# Altium integrated library NGI_Search.IntLib: 77 symbols
Pins are listed as number, name and electrical type; pins without a type are passive.

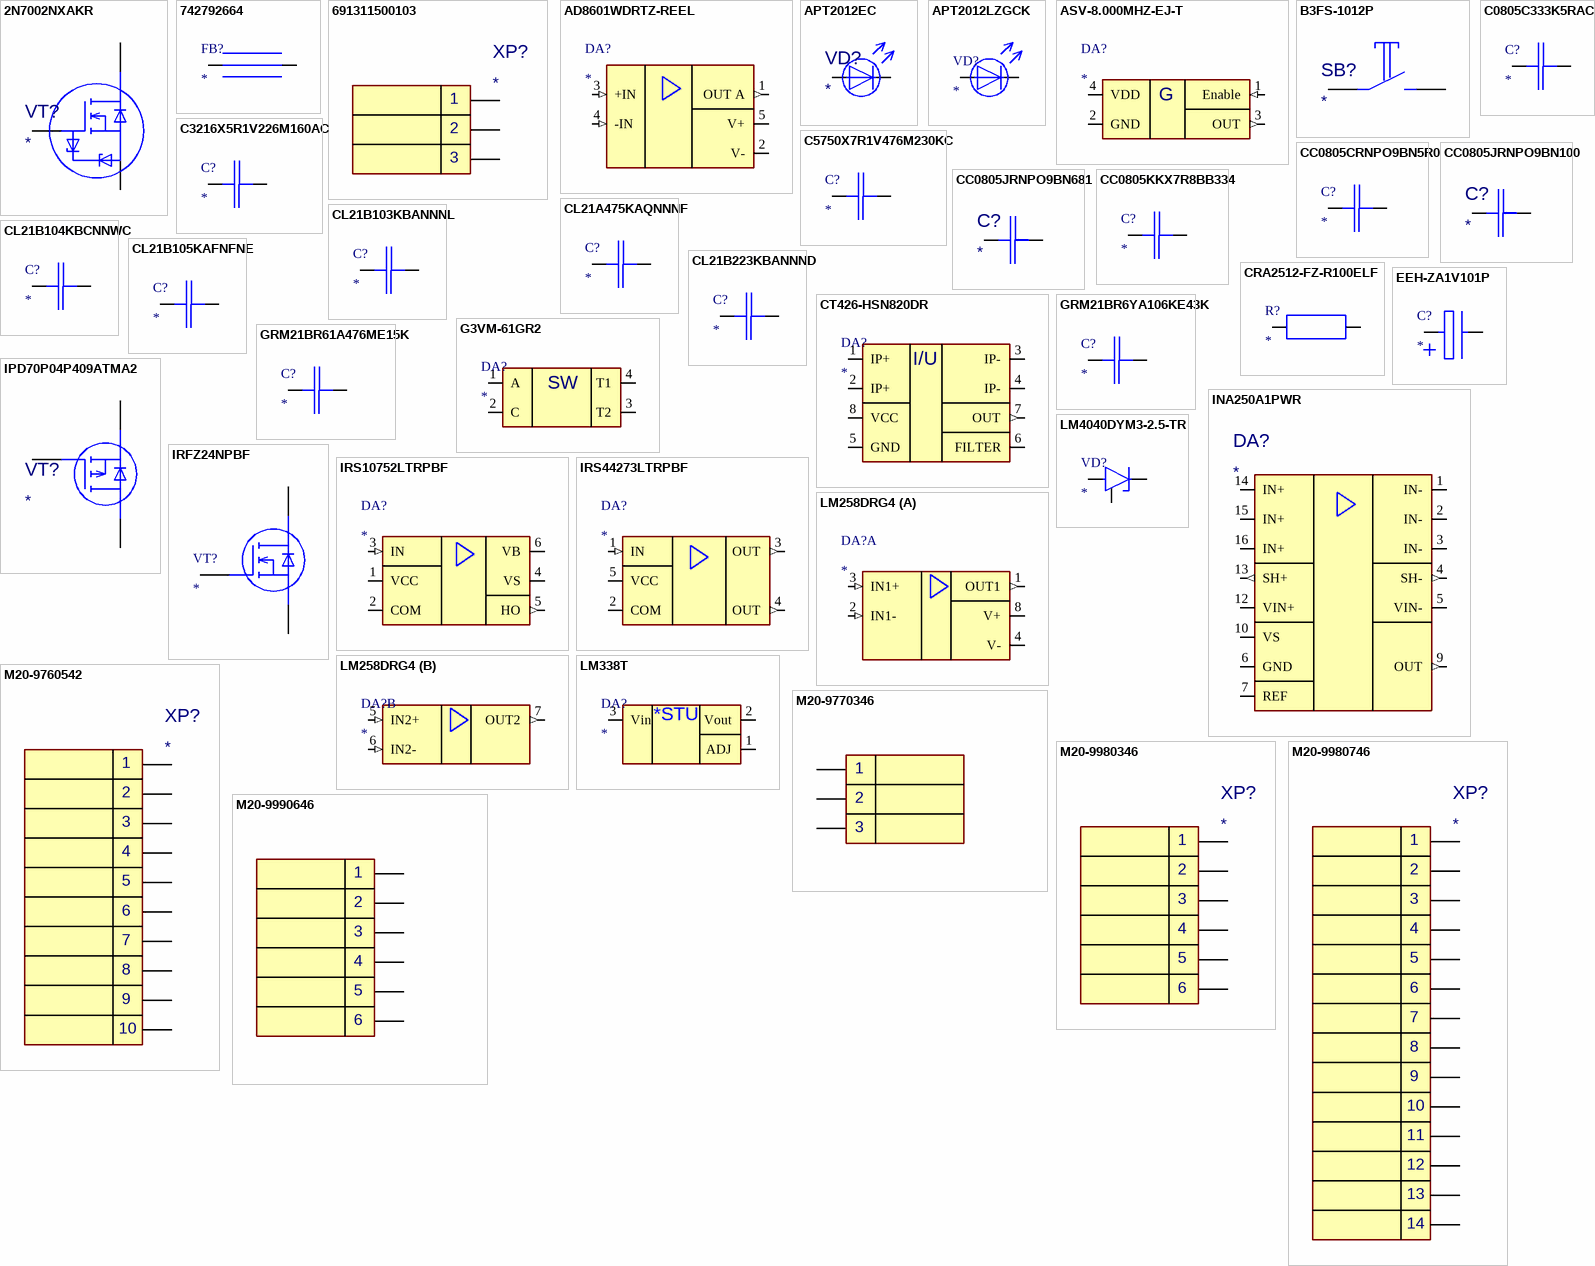
[diagram p0: symbols 2N7002NXAKR to M20-9990646]

## 2N7002NXAKR
designator VT?
MOSFET 2N7002NXAK/SOT23/TO-236AB; Manufacturer: Nexperia; ManufacturerPartNumber: 2N7002NXAKR; Designator: VT; Case: SOT-23 3pin; Datasheet Link: https://eu.mouser.com/datasheet/2/916/2N7002NXAK-1623722.pdf; Mouser Part Number: 771-2N7002NXAKR; Mouser Price/Stock: https://eu.mouser.com/ProductDetail/Nexperia/2N7002NXAKR?qs=%252B6g0mu59x7JoAsZYPFXqhw%3D%3D
footprint SOT-23-3
pins: 1 G, 2 S, 3 D

## 742792664
designator FB?
Ferrite Beads WE-CBF 0603 100MHz 1000Ohm 300mA AEC-Q200; Manufacturer: Wurth Elektronik; ManufacturerPartNumber: 742792664; Designator: FB; Case: 0603; Datasheet Link: https://www.we-online.com/components/products/datasheet/742792664.pdf; Maximum Current: 300 mA; Mouser Part Number: 710-742792664; Mouser Price/Stock: https://eu.mouser.com/ProductDetail/Wurth-Elektronik/742792664?qs=5twSNpOB8ICHwt6lnbKGWQ%3D%3D; Value: 1000Ohm; Frequency: 100 MHz
footprint 742792664_Ferrite Beads_0603
pins: 1, 2

## 691311500103
designator XP?
Pluggable Terminal Blocks WR-TBL 300VAC 20A 3P Vertical; Manufacturer: Wurth Elektronik; ManufacturerPartNumber: 691311500103; Designator: XP; Case: 3 VERTICAL PIN Pitch: 5.08 mm; Datasheet Link: https://www.we-online.com/components/products/datasheet/691311500103.pdf; Mouser Part Number: 710-691311500103; Mouser Price/Stock: https://eu.mouser.com/ProductDetail/Wurth-Elektronik/691311500103?qs=2kOmHSv6VfTr95JPv5RlIw%3D%3D
footprint 691311500103
pins: 1, 2, 3

## AD8601WDRTZ-REEL
designator DA?
Precision Amplifiers Single, Lw Cst, 8MHz, RRIO, 5V OpAmp; Manufacturer: Analog Devices Inc.; ManufacturerPartNumber: AD8601WDRTZ-REEL; Designator: DA; Case: SOT-23 5pin; Datasheet Link: https://eu.mouser.com/datasheet/2/609/ad8601_8602_8604-3119459.pdf; Mouser Part Number: 584-AD8601WDRTZ-R; Mouser Price/Stock: https://eu.mouser.com/ProductDetail/Analog-Devices/AD8601WDRTZ-REEL?qs=%2FtpEQrCGXCxTn38zRtQA5Q%3D%3D
footprint SOT-23 5pin (SOT23, 5-Leads, Body 2,90x2,80mm, Pitch 0,95mm, IPC Medium Density)
pins: 1 OUT A (out), 2 V- (power), 3 +IN (in), 4 -IN (in), 5 V+ (power)

## APT2012EC
designator VD?
Standard LEDs - SMD HI EFF RED WTR CLR; Manufacturer: Kingbright; ManufacturerPartNumber: APT2012EC; Designator: VD; Case: 0805; Datasheet Link: https://eu.mouser.com/datasheet/2/216/APT2012EC-35230.pdf; Mouser Part Number: 604-APT2012EC; Mouser Price/Stock: https://eu.mouser.com/ProductDetail/Kingbright/APT2012EC?qs=sGAEpiMZZMvyj6n1w4pZD5QO%2FJ%252BHmnjZ4Dr1%252BP7JiL4%3D
footprint APT2012LZGCK0805_LEDs
pins: A, C

## APT2012LZGCK
designator VD?
Standard LEDs - SMD 2.0X1.2MM LOW CRNT; Manufacturer: Kingbright; ManufacturerPartNumber: APT2012LZGCK; Designator: VD; Case: 0805; Mouser Part Number: 604-APT2012LZGCK; Mouser Price/Stock: https://eu.mouser.com/ProductDetail/Kingbright/APT2012LZGCK?qs=6oMev5NRZMHOosFiXb%2F3qw%3D%3D; Datasheet Link: https://eu.mouser.com/datasheet/2/216/APT2012LZGCK-535687.pdf
footprint APT2012LZGCK0805_LEDs
pins: A, C

## ASV-8.000MHZ-EJ-T
designator DA?
Standard Clock Oscillators XTAL OSC XO 8.0000MHZ HCMOS SMD; Manufacturer: ABRACON; ManufacturerPartNumber: ASV-8.000MHZ-EJ-T; Designator: DA; Value: 8 Mhz; Case: HCMOS 7 mm x 5 mm; Datasheet Link: https://eu.mouser.com/datasheet/2/3/ASV-3106233.pdf; Mouser Part Number: 815-ASV-8-EJ-T; Mouser Price/Stock: https://eu.mouser.com/ProductDetail/ABRACON/ASV-8.000MHZ-EJ-T?qs=2xLVn2jvFusvDzqul0mkiw%3D%3D
footprint HCMOS 7 mm x 5 mm
pins: 1 Enable (in), 2 GND (power), 3 OUT (out), 4 VDD (power)
text: G

## B3FS-1012P
designator SB?
Tactile Switches Tactile Switch; Manufacturer: Omron; ManufacturerPartNumber: B3FS-1012P; Designator: SB; Case: Flat; Datasheet Link: https://eu.mouser.com/datasheet/2/307/omron_B3FS-1189765.pdf; Mouser Part Number: 653-B3FS-1012P; Mouser Price/Stock: https://eu.mouser.com/ProductDetail/Omron-Electronics/B3FS-1012P?qs=1tDaWCEHQQ7mwfTJVAKWQA%3D%3D
footprint Flat Switches
pins: 1, 2 hidden, 3, 4 hidden

## C0805C333K5RAC
designator C?
Multilayer Ceramic Capacitors MLCC - SMD/SMT 50V 0.033uF X7R 0805 10%; Manufacturer: KEMET; ManufacturerPartNumber: C0805C333K5RAC; Designator: C; Case: 0805; Datasheet Link: https://eu.mouser.com/datasheet/2/447/KEM_C1002_X7R_SMD-3316098.pdf; Dielectric: X7R; Mouser Part Number: 80-C0805C333K5RAC; Mouser Price/Stock: https://eu.mouser.com/ProductDetail/KEMET/C0805C333K5RAC?qs=sGAEpiMZZMvsSlwiRhF8qtpM02mjhsWZUP8GnSbnH5w%3D; Power/Voltage: 50V; Tolerance: 10%; Value: 0.033 uF
footprint Capacitor0805_THICKNESS0.8 (Chip Capacitor, 2-Leads, Body 2,00x1,25mm, IPC Medium Density)
pins: 1, 2

## C3216X5R1V226M160AC
designator C?
Multilayer Ceramic Capacitors MLCC - SMD/SMT 1206 35V 22uF X5R 20% T: 1.6mm; Manufacturer: TDK; ManufacturerPartNumber: C3216X5R1V226M160AC; Designator: C; Case: 1206; Datasheet Link: https://product.tdk.com/system/files/dam/doc/product/capacitor/ceramic/mlcc/catalog/mlcc_commercial_general_en.pdf; Dielectric: X5R; Mouser Part Number: 810-C3216X5R1V226M; Mouser Price/Stock: https://eu.mouser.com/ProductDetail/TDK/C3216X5R1V226M160AC?qs=NRhsANhppD8TwN31eZ1xGQ%3D%3D; Power/Voltage: 35V; Tolerance: 20%; Value: 22 uF
footprint Capacitor1206_THICKNESS1.6 (Chip Capacitor, 2-Leads, Body 3,20x1,60mm, IPC Medium Density)
pins: 1, 2

## C5750X7R1V476M230KC
designator C?
Multilayer Ceramic Capacitors MLCC - SMD/SMT 2220 35VDC 47uF 20% X7R; Manufacturer: TDK; ManufacturerPartNumber: C5750X7R1V476M230KC; Designator: C; Power/Voltage: 35V; Case: 2220; Datasheet Link: https://product.tdk.com/system/files/dam/doc/product/capacitor/ceramic/mlcc/catalog/mlcc_commercial_general_en.pdf; Dielectric: X7R; Mouser Part Number: 810-C5750X7R1V476M23; Mouser Price/Stock: https://eu.mouser.com/ProductDetail/TDK/C5750X7R1V476M230KC?qs=rSMjJ%252B1ewcSIfs95ZgB3Sw%3D%3D; Tolerance: 20%; Value: 47uF
footprint Capacitor2220_THICKNESS3.1 (Chip Capacitor, 2-Leads, Body 5,70x5,00mm, IPC Medium Density)
pins: 1, 2

## CC0805CRNPO9BN5R0
designator C?
Multilayer Ceramic Capacitors MLCC - SMD/SMT 50V 5pF C0G 0805 Tol 0.25pF; Manufacturer: YAGEO; ManufacturerPartNumber: CC0805CRNPO9BN5R0; Designator: C; Dielectric: C0G (NP0); Tolerance: 5%; Case: 0805; Datasheet Link: https://eu.mouser.com/datasheet/2/447/UPY_NP0X5R_01005_4V_to_25V_V10-3003057.pdf; Mouser Part Number: 603-CC805CRNPO9BN5R0; Mouser Price/Stock: https://eu.mouser.com/ProductDetail/YAGEO/CC0805CRNPO9BN5R0?qs=57cj7OiSijm1o7wMqGKW1g%3D%3D; Power/Voltage: 50V; Value: 5 pF
footprint Capacitor0805_THICKNESS0.6 (Chip Capacitor, 2-Leads, Body 2,00x1,25mm, IPC Medium Density)
pins: 1, 2

## CC0805JRNPO9BN100
designator C?
Multilayer Ceramic Capacitors MLCC - SMD/SMT 50 V 10 pF C0G 0805 5%; Manufacturer: YAGEO; ManufacturerPartNumber: CC0805JRNPO9BN100; Designator: C; Dielectric: C0G (NP0); Power/Voltage: 50V; Value: 10 pF; Case: 0805; Datasheet Link: https://eu.mouser.com/datasheet/2/447/UPY_GP_NP0_16V_to_50V_18-1730511.pdf; Mouser Part Number: 603-CC805JRNPO9BN100; Mouser Price/Stock: https://eu.mouser.com/ProductDetail/YAGEO/CC0805JRNPO9BN100?qs=DBlb8Oi07mYgwCvOiwRYAw%3D%3D; Tolerance: 5%
footprint Capacitor0805_THICKNESS0.6 (Chip Capacitor, 2-Leads, Body 2,00x1,25mm, IPC Medium Density)
pins: 1, 2

## CC0805JRNPO9BN681
designator C?
Multilayer Ceramic Capacitors MLCC - SMD/SMT 50 V 680pF C0G 0805 5%; Manufacturer: YAGEO; ManufacturerPartNumber: CC0805JRNPO9BN681; Designator: C; Dielectric: C0G (NP0); Power/Voltage: 50V; Case: 0805; Datasheet Link: https://eu.mouser.com/datasheet/2/447/UPY_GP_NP0_16V_to_50V_18-1730511.pdf; Mouser Part Number: 603-CC805JRNPO9BN681; Mouser Price/Stock: https://eu.mouser.com/ProductDetail/YAGEO/CC0805JRNPO9BN681?qs=AgBp2OyFlx9ovATSZcyCAw%3D%3D; Tolerance: 5%; Value: 680pF
footprint Capacitor0805_THICKNESS0.6 (Chip Capacitor, 2-Leads, Body 2,00x1,25mm, IPC Medium Density)
pins: 1, 2

## CC0805KKX7R8BB334
designator C?
Multilayer Ceramic Capacitors MLCC - SMD/SMT 25V 0.33uF X7R 0805 10%; Manufacturer: YAGEO; ManufacturerPartNumber: CC0805KKX7R8BB334; Designator: C; Case: 0805; Datasheet Link: https://eu.mouser.com/datasheet/2/447/UPY_GPHC_X7R_6_3V_to_250V_23-3084653.pdf; Dielectric: X7R; Mouser Part Number: 603-CC805KKX7R8BB334; Mouser Price/Stock: https://eu.mouser.com/ProductDetail/YAGEO/CC0805KKX7R8BB334?qs=sGAEpiMZZMvsSlwiRhF8qhv%252BGHtcCd98Tol7cGM2QGw%3D; Power/Voltage: 25V; Tolerance: 10%; Value: 0.33uF
footprint Capacitor0805_THICKNESS1.25 (Chip Capacitor, 2-Leads, Body 2,00x1,25mm, IPC Medium Density)
pins: 1, 2

## CL21A475KAQNNNF
designator C?
Multilayer Ceramic Capacitors MLCC - SMD/SMT 4.7uF+/-10% 25V X5R 0805; Manufacturer: Samsung Electro-Mechanics; ManufacturerPartNumber: CL21A475KAQNNNF; Designator: C; Tolerance: 10%; Value: 4.7 uF; Case: 0805; Datasheet Link: https://eu.mouser.com/datasheet/2/585/MLCC-1837944.pdf; Dielectric: X5R; Mouser Part Number: 187-CL21A475KAQNNNF; Mouser Price/Stock: https://eu.mouser.com/ProductDetail/Samsung-Electro-Mechanics/CL21A475KAQNNNF?qs=sGAEpiMZZMvsSlwiRhF8qtsGU%2FCnaNeQ9%2FtqxdEQLsBh1lK0%252BjEvRQ%3D%3D; Power/Voltage: 25V
footprint Capacitor0805_THICKNESS1.25 (Chip Capacitor, 2-Leads, Body 2,00x1,25mm, IPC Medium Density)
pins: 1, 2

## CL21B103KBANNNL
designator C?
Multilayer Ceramic Capacitors MLCC - SMD/SMT 10nF+/-10% 50V X7R 2 0805; Manufacturer: Samsung Electro-Mechanics; ManufacturerPartNumber: CL21B103KBANNNL; Designator: C; Tolerance: 10%; Value: 0.01 uF; Case: 0805; Datasheet Link: https://eu.mouser.com/datasheet/2/585/MLCC-1837944.pdf; Dielectric: X7R; Mouser Part Number: 187-CL21B103KBANNNL; Mouser Price/Stock: https://eu.mouser.com/ProductDetail/Samsung-Electro-Mechanics/CL21B103KBANNNL?qs=sGAEpiMZZMvsSlwiRhF8qtsGU%2FCnaNeQUbGZYi74bLm5gwqVLR8V4A%3D%3D; Power/Voltage: 50V
footprint Capacitor0805_THICKNESS0.8 (Chip Capacitor, 2-Leads, Body 2,00x1,25mm, IPC Medium Density)
pins: 1, 2

## CL21B104KBCNNWC
designator C?
Multilayer Ceramic Capacitors MLCC - SMD/SMT 100nF+/-10% 50V X7R 0805; ManufacturerPartNumber: CL21B104KBCNNWC; Manufacturer: Samsung Electro-Mechanics; Designator: С; Tolerance: 10%; Value: 0.1 uF; Dielectric: X7R; Mouser Price/Stock: https://eu.mouser.com/ProductDetail/Samsung-Electro-Mechanics/CL21B104KBCNNWC?qs=yOVawPpwOwlu2UTVxWhmlw%3D%3D; Power/Voltage: 50V; Case: 0805; Datasheet Link: https://eu.mouser.com/datasheet/2/585/MLCC-1837944.pdf; Mouser Part Number: 187-CL21B104KBCNNWC
footprint Capacitor0805_THICKNESS0.8 (Chip Capacitor, 2-Leads, Body 2,00x1,25mm, IPC Medium Density)
pins: 1, 2

## CL21B105KAFNFNE
designator C?
Multilayer Ceramic Capacitors MLCC - SMD/SMT 1uF+/-10% 25V X7R 20 0805; Manufacturer: Samsung Electro-Mechanics; ManufacturerPartNumber: CL21B105KAFNFNE; Designator: C; Tolerance: 10%; Value: 1 uF; Case: 0805; Datasheet Link: https://eu.mouser.com/datasheet/2/585/MLCC-1837944.pdf; Dielectric: X7R; Mouser Part Number: 187-CL21B105KAFNFNE; Mouser Price/Stock: https://eu.mouser.com/ProductDetail/Samsung-Electro-Mechanics/CL21B105KAFNFNE?qs=%252B6g0mu59x7LIqMOGGtEcpA%3D%3D; Power/Voltage: 25V
footprint Capacitor0805_THICKNESS1.25 (Chip Capacitor, 2-Leads, Body 2,00x1,25mm, IPC Medium Density)
pins: 1, 2

## CL21B223KBANNND
designator C?
Multilayer Ceramic Capacitors MLCC - SMD/SMT 22nF+/-10% 50V X7R 2 0805; Manufacturer: Samsung Electro-Mechanics; ManufacturerPartNumber: CL21B223KBANNND; Designator: C; Tolerance: 10%; Value: 0.022 uF; Case: 0805; Datasheet Link: https://eu.mouser.com/datasheet/2/585/MLCC-1837944.pdf; Dielectric: X7R; Mouser Part Number: 187-CL21B223KBANNND; Mouser Price/Stock: https://eu.mouser.com/ProductDetail/Samsung-Electro-Mechanics/CL21B223KBANNND?qs=sGAEpiMZZMvsSlwiRhF8qlxW52pIu5FNS13PGP1GZqY%3D; Power/Voltage: 50V
footprint Capacitor0805_THICKNESS0.8 (Chip Capacitor, 2-Leads, Body 2,00x1,25mm, IPC Medium Density)
pins: 1, 2

## CRA2512-FZ-R100ELF
designator R?
Current Sense Resistors 0.100ohms 1% +/- 50PPM; Manufacturer: Bourns; ManufacturerPartNumber: CRA2512-FZ-R100ELF; Designator: R; Power/Voltage: 3 W; Value: 100 mOhms; Case: 2512; Datasheet Link: https://eu.mouser.com/datasheet/2/54/cra-1862173.pdf; Mouser Part Number: 652-CRA2512FZR100ELF; Mouser Price/Stock: https://eu.mouser.com/ProductDetail/Bourns/CRA2512-FZ-R100ELF?qs=sGAEpiMZZMvdGkrng054t219Tlw6YGVDJEjBibzyJuk%3D; Tolerance: 1%
footprint Resistor2512_THICKNESS_0.9 (Chip Resistor, 2-Leads, Body 6,40x3,20mm, IPC Medium Density)
pins: 1, 2

## CT426-HSN820DR
designator DA?
Board Mount Current Sensors XtremeSense TMR Ultra-Low Noise, 8-lead SOIC (20 ADC; VDD = 3.3 V; Up to +125C); Manufacturer: Crocus Technology; ManufacturerPartNumber: CT426-HSN820DR; Designator: DA; Case: SOIC-8; Datasheet Link: https://eu.mouser.com/datasheet/2/779/CT426_Data_Sheet_Rev0_7-2934570.pdf; Mouser Part Number: 462-CT426-HSN820DR; Mouser Price/Stock: https://eu.mouser.com/ProductDetail/Crocus/CT426-HSN820DR?qs=7D1LtPJG0i3u5AJ0mZ7fbw%3D%3D
footprint SOIC-8 (SOIC, 8-Leads, Body 4,91x3,90mm, Pitch 1,27mm, IPC Medium Density)
pins: 1 IP+, 2 IP+, 3 IP-, 4 IP-, 5 GND (power), 6 FILTER, 7 OUT (out), 8 VCC (power)
text: I/U

## EEH-ZA1V101P
designator C?
Aluminium Organic Polymer Capacitors 35VDC 100uF 20% AEC-Q200; ManufacturerPartNumber: EEH-ZA1V101P; Manufacturer: Panasonic; Designator: C; Power/Voltage: 35V; ESR: 27 mOhms; Tolerance: 20%; Value: 100 uF; Mouser Price/Stock: https://eu.mouser.com/ProductDetail/Panasonic/EEH-ZA1V101P?qs=sGAEpiMZZMvwFf0viD3Y3a3yb5D6sPUgQ6Q%252BT2xzDvzCb9%252BaM%252B4sJw%3D%3D; Case: G; Datasheet Link: https://eu.mouser.com/datasheet/2/315/ABA0000C1221-1280637.pdf; Mouser Part Number: 667-EEH-ZA1V101P
footprint EEH-ZA1V101P (Aluminum Electrolytic Capacitor, Body 10,30x10,30x10,50mm, IPC Medium Density)
pins: 1, 2

## G3VM-61GR2
designator DA?
Solid State Relays - PCB Mount 60V,1.7A, 80mOhm ONr 1 Form A, SOP4/SMT; Manufacturer: Omron; ManufacturerPartNumber: G3VM-61GR2; Designator: DA; Case: SOP-4; Datasheet Link: https://eu.mouser.com/datasheet/2/307/en-g3vm_61gr2-780127.pdf; Mouser Part Number: 653-G3VM61GR2; Mouser Price/Stock: https://eu.mouser.com/ProductDetail/Omron-Electronics/G3VM-61GR2?qs=ycOx5YLpuFVseArz%252BUpyOA%3D%3D
footprint SOP-4 (SOP, 4-Leads, Body 3,90x4,40mm, Pitch 2,54mm, IPC Medium Density)
pins: 1 A, 2 C, 3 T2, 4 T1
text: SW

## GRM21BR6YA106KE43K
designator C?
Multilayer Ceramic Capacitors MLCC - SMD/SMT 10 uF 35 VDC 10% 0805 X5R; ManufacturerPartNumber: GRM21BR6YA106KE43K; Manufacturer: Murata; Designator: С; Power/Voltage: 35V; Value: 10 uF; Tolerance: 10%; Dielectric: X5R; Mouser Price/Stock: https://eu.mouser.com/ProductDetail/Murata-Electronics/GRM21BR6YA106KE43K?qs=QzBtWTOodeW8NrklCAafzg%3D%3D; Case: 0805; Datasheet Link: https://eu.mouser.com/datasheet/2/281/1/GRM21BR6YA106KE43_01A-1986981.pdf; Mouser Part Number: 81-GRM21BR6YA106KE3K
footprint Capacitor0805_THICKNESS1.45 (Chip Capacitor, 2-Leads, Body 2,00x1,25mm, IPC Medium Density)
pins: 1, 2

## GRM21BR61A476ME15K
designator C?
Multilayer Ceramic Capacitors MLCC - SMD/SMT 47 uF 10 VDC 20% 0805 X5R; Manufacturer: Murata; ManufacturerPartNumber: GRM21BR61A476ME15K; Designator: C; Power/Voltage: 10V; Value: 47 uF; Case: 0805; Datasheet Link: https://eu.mouser.com/datasheet/2/281/1/GRM21BR61A476ME15_01A-1986931.pdf; Dielectric: X5R; Mouser Part Number: 81-GRM21BR61A476ME5K; Mouser Price/Stock: https://eu.mouser.com/ProductDetail/Murata-Electronics/GRM21BR61A476ME15K?qs=sGAEpiMZZMvsSlwiRhF8qtKev7nvVKumdokzOmlxZZTbnZpuci0nOw%3D%3D; Tolerance: 20%
footprint Capacitor0805_THICKNESS1.25 (Chip Capacitor, 2-Leads, Body 2,00x1,25mm, IPC Medium Density)
pins: 1, 2

## INA250A1PWR
designator DA?
Current & Power Monitors & Regulators 36V, bi-directional, precision current sense amplifier w/int. shunt resistor 16-TSSOP -40 to 125; Manufacturer: Texas Instruments; ManufacturerPartNumber: INA250A1PWR; Designator: DA; Case: TSSOP-16; Datasheet Link: https://www.ti.com/lit/ds/symlink/ina250.pdf?ts=1706467287893&ref_url=https%253A%252F%252Feu.mouser.com%252F; Mouser Part Number: 595-INA250A1PWR; Mouser Price/Stock: https://eu.mouser.com/ProductDetail/Texas-Instruments/INA250A1PWR?qs=dHDuPHwQO790CDZpmrjjbA%3D%3D
footprint TSSOP-16 (TSOP, 16-Leads, Body 5,00x4,40mm, Pitch 0,65mm, IPC Medium Density)
pins: 1 IN-, 2 IN-, 3 IN-, 4 SH- (out), 5 VIN-, 6 GND (power), 7 REF, 8 GND (power) hidden, 9 OUT (out), 10 VS (power), 11 GND (power) hidden, 12 VIN+, 13 SH+ (out), 14 IN+, 15 IN+, 16 IN+

## IPD70P04P409ATMA2
designator VT?
MOSFET (20V 40V); Manufacturer: Infineon; ManufacturerPartNumber: IPD70P04P409ATMA2; Designator: VT; Case: TO-252 3pin; Datasheet Link: https://eu.mouser.com/datasheet/2/196/Infineon_IPD70P04P4_09_DS_v01_00_en-1730695.pdf; Mouser Part Number: IPD70P04P409ATMA2; Mouser Price/Stock: https://eu.mouser.com/ProductDetail/Infineon-Technologies/IPD70P04P409ATMA2?qs=GBLSl2Akiru5vq%252BvDEUdzg%3D%3D
footprint TO-252-3 (D-PAK, 3-Pads, Body 6,21x6,69mm (max), IPC Medium Density)
pins: 1 G, 2 D, 3 S

## IRFZ24NPBF
designator VT?
MOSFT 55V 17A 70mOhm 13.3nC; Manufacturer: Infineon; ManufacturerPartNumber: IRFZ24NPBF; Designator: VT; Case: TO-220; Datasheet Link: https://eu.mouser.com/datasheet/2/196/Infineon_IRFZ24N_DataSheet_v01_01_EN-3363353.pdf; Mouser Part Number: 942-IRFZ24NPBF; Mouser Price/Stock: https://eu.mouser.com/ProductDetail/Infineon-Technologies/IRFZ24NPBF?qs=9%252BKlkBgLFf0TQgSTtY4J0g%3D%3D
footprint IRFZ24NPBF TO-220 3pin
footprint IRFZ24NPBF TO-220 with HS FA-T220-64E
pins: 1 G, 2 D, 3 S

## IRS10752LTRPBF
designator DA?
Gate Drivers Hi Side Gate Driver Single Channel; Manufacturer: Infineon; ManufacturerPartNumber: IRS10752LTRPBF; Designator: DA; Case: SOT-23 6pin; Datasheet Link: https://eu.mouser.com/datasheet/2/196/Infineon_IRS10752L_DS_v01_02_EN-3363637.pdf; Mouser Part Number: 942-IRS10752LTRPBF; Mouser Price/Stock: https://eu.mouser.com/ProductDetail/Infineon-Technologies/IRS10752LTRPBF?qs=17WaC%252BZOsuKXVNmF3l6MAw%3D%3D
footprint SOT23 6pin (SOT23, 6-Leads, Body 2,90x2,80mm, Pitch 0,95mm, IPC Medium Density)
pins: 1 VCC (power), 2 COM (power), 3 IN (in), 4 VS (power), 5 HO (out), 6 VB (power)

## IRS44273LTRPBF
designator DA?
Gate Drivers 25V 1-CH low-side 1.5A,Single input; Manufacturer: Infineon; ManufacturerPartNumber: IRS44273LTRPBF; Designator: DA; Case: SOT-23 5pin; Datasheet Link: https://eu.mouser.com/datasheet/2/196/Infineon_IRS44273L_DS_v01_00_EN-3363539.pdf; Mouser Part Number: 942-IRS44273LTRPBF; Mouser Price/Stock: https://eu.mouser.com/ProductDetail/Infineon-Technologies/IRS44273LTRPBF?qs=mm%2F7efQvNxqxS8rwPY9f8Q%3D%3D
footprint SOT-23 5pin (SOT23, 5-Leads, Body 2,90x2,80mm, Pitch 0,95mm, IPC Medium Density)
pins: 1 IN (in), 2 COM (power), 3 OUT (out), 4 OUT (out), 5 VCC (power)

## LM258DRG4
designator DA?
Operational Amplifiers - Op Amps Dual Operational Amplifier; Manufacturer: Texas Instruments; ManufacturerPartNumber: LM258DRG4; Designator: DA; Case: SOIC-8; Datasheet Link: https://www.ti.com/lit/ds/symlink/lm2904ba.pdf?ts=1704458867193&ref_url=https%253A%252F%252Fwww.mouser.com.tr%252F; Mouser Price/Stock: https://eu.mouser.com/ProductDetail/Texas-Instruments/LM258DRG4?qs=VBduBm9rCJSSuHFL4rPBDA%3D%3D; Mouser Part Number: 595-LM258DRG4
footprint SOIC-8 (SOIC, 8-Leads, Body 4,91x3,90mm, Pitch 1,27mm, IPC Medium Density)
part A pins: 1 OUT1 (out), 2 IN1- (in), 3 IN1+ (in), 4 V- (power), 8 V+ (power)
part B pins: 5 IN2+ (in), 6 IN2- (in), 7 OUT2 (out)

## LM338T
designator DA?
Linear Voltage Regulators 5 AMP ADJUSTABLE REG; ManufacturerPartNumber: LM338T; Manufacturer: Texas Instruments; Designator: DA; Mouser Price/Stock: https://eu.mouser.com/ProductDetail/Texas-Instruments/LM338T-NOPB?qs=X1J7HmVL2ZENaH7%2FMvkSlw%3D%3D; Case: TO-220; Datasheet Link: https://www.ti.com/lit/ds/symlink/lm138.pdf?ts=1704385927498&ref_url=https%253A%252F%252Feu.mouser.com%252F; Mouser Part Number: 926-LM338T/NOPB
footprint LM338T TO-220 3pin
footprint LM338T TO-220 with HS FA-T220-64E
pins: 1 ADJ, 2 Vout (power), 3 Vin (power)
text: *STU

## LM4040DYM3-2.5-TR
designator VD?
Voltage References Shunt Voltage Reference, 2.5V, 1.0% Accuracy, 150ppm/deg; Manufacturer: Microchip; ManufacturerPartNumber: LM4040DYM3-2.5-TR; Designator: VD; Case: SOT-23 3pin; Datasheet Link: https://eu.mouser.com/datasheet/2/268/LM4040_41_Precision_Micropower_Shunt_Voltage_Refer-1890894.pdf; Mouser Part Number: 998-LM4040DYM3-2.5TR; Mouser Price/Stock: https://eu.mouser.com/ProductDetail/Microchip-Technology/LM4040DYM3-2.5-TR?qs=Y3Q3JoKAO1S64N4CecjyLw%3D%3D
footprint SOT23 3pin (SOT23, 3-Leads, Body 3,10x2,37mm, Pitch 0,95mm, IPC Medium Density)
pins: 1 +, 2 -, 3 NC hidden

## M20-9760542
designator XP?
Headers & Wire Housings 05+05 DIL VERTICAL PIN HEADER GOLD+TIN; Manufacturer: Harwin; ManufacturerPartNumber: M20-9760542; Designator: XP; Case: 05+05 DIL VERTICAL PIN; Datasheet Link: https://eu.mouser.com/datasheet/2/181/M20-976-1273510.pdf; Mouser Part Number: 855-M20-9760542; Mouser Price/Stock: https://eu.mouser.com/ProductDetail/Harwin/M20-9760542?qs=WS5Jv%252B%252Bx1qWXnFWOyfr5DQ%3D%3D
footprint M20-9760542
pins: 1, 2, 3, 4, 5, 6, 7, 8, 9, 10

## M20-9770346
designator XP?
Headers & Wire Housings 03 SIL VERTICAL PIN HEADER TIN; Manufacturer: Harwin; ManufacturerPartNumber: M20-9770346; Designator: XP; Case: 3 VERTICAL PIN Pitch: 2.54 mm; Datasheet Link: https://eu.mouser.com/datasheet/2/181/M20-977-1220590.pdf; Mouser Part Number: 855-M20-9770346; Mouser Price/Stock: https://eu.mouser.com/ProductDetail/Harwin/M20-9770346?qs=Jph8NoUxIfVn3Cgrvt8MYw%3D%3D
footprint 3 VERTICAL PIN Pitch: 2.54 mm
pins: 1, 2, 3

## M20-9980346
designator XP?
Headers & Wire Housings 03+03 DIL VERTICAL PIN HEADER TIN; Manufacturer: Harwin; ManufacturerPartNumber: M20-9980346; Designator: XP; Datasheet Link: https://eu.mouser.com/datasheet/2/181/M20-998-1220570.pdf; Mouser Part Number: 855-M20-9980346; Mouser Price/Stock: https://eu.mouser.com/ProductDetail/Harwin/M20-9980346?qs=%252Bk6%2F5FB6qrmHk2P20oz3FA%3D%3D; Case: 03+03 DIL VERTICAL PIN
footprint M20-9980346
pins: 1, 2, 3, 4, 5, 6

## M20-9980746
designator XP?
Headers & Wire Housings 07+07 DIL VERTICAL PIN HEADER TIN; Manufacturer: Harwin; ManufacturerPartNumber: M20-9980746; Designator: XP; Case: 07+07 DIL VERTICAL PIN; Datasheet Link: https://eu.mouser.com/datasheet/2/181/M20-998-1220570.pdf; Mouser Part Number: 855-M20-9980746; Mouser Price/Stock: https://eu.mouser.com/ProductDetail/Harwin/M20-9980746?qs=%252Bk6%2F5FB6qrksRad0BXV2Qw%3D%3D
footprint M20-9980746
pins: 1, 2, 3, 4, 5, 6, 7, 8, 9, 10, 11, 12, 13, 14

## M20-9990646
designator XP?
Headers & Wire Housings 06 SIL VERTICAL PIN HEADER TIN; Manufacturer: Harwin; ManufacturerPartNumber: M20-9990646; Designator: XP; Case: 6 VERTICAL PIN Pitch: 2.54 mm; Datasheet Link: https://eu.mouser.com/datasheet/2/181/M20-999-1218971.pdf; Mouser Part Number: M20-9990646; Mouser Price/Stock: https://eu.mouser.com/ProductDetail/Harwin/M20-9990646?qs=Jph8NoUxIfXDcWZbabSSiw%3D%3D
footprint 6 VERTICAL PIN Pitch: 2.54 mm
pins: 1, 2, 3, 4, 5, 6

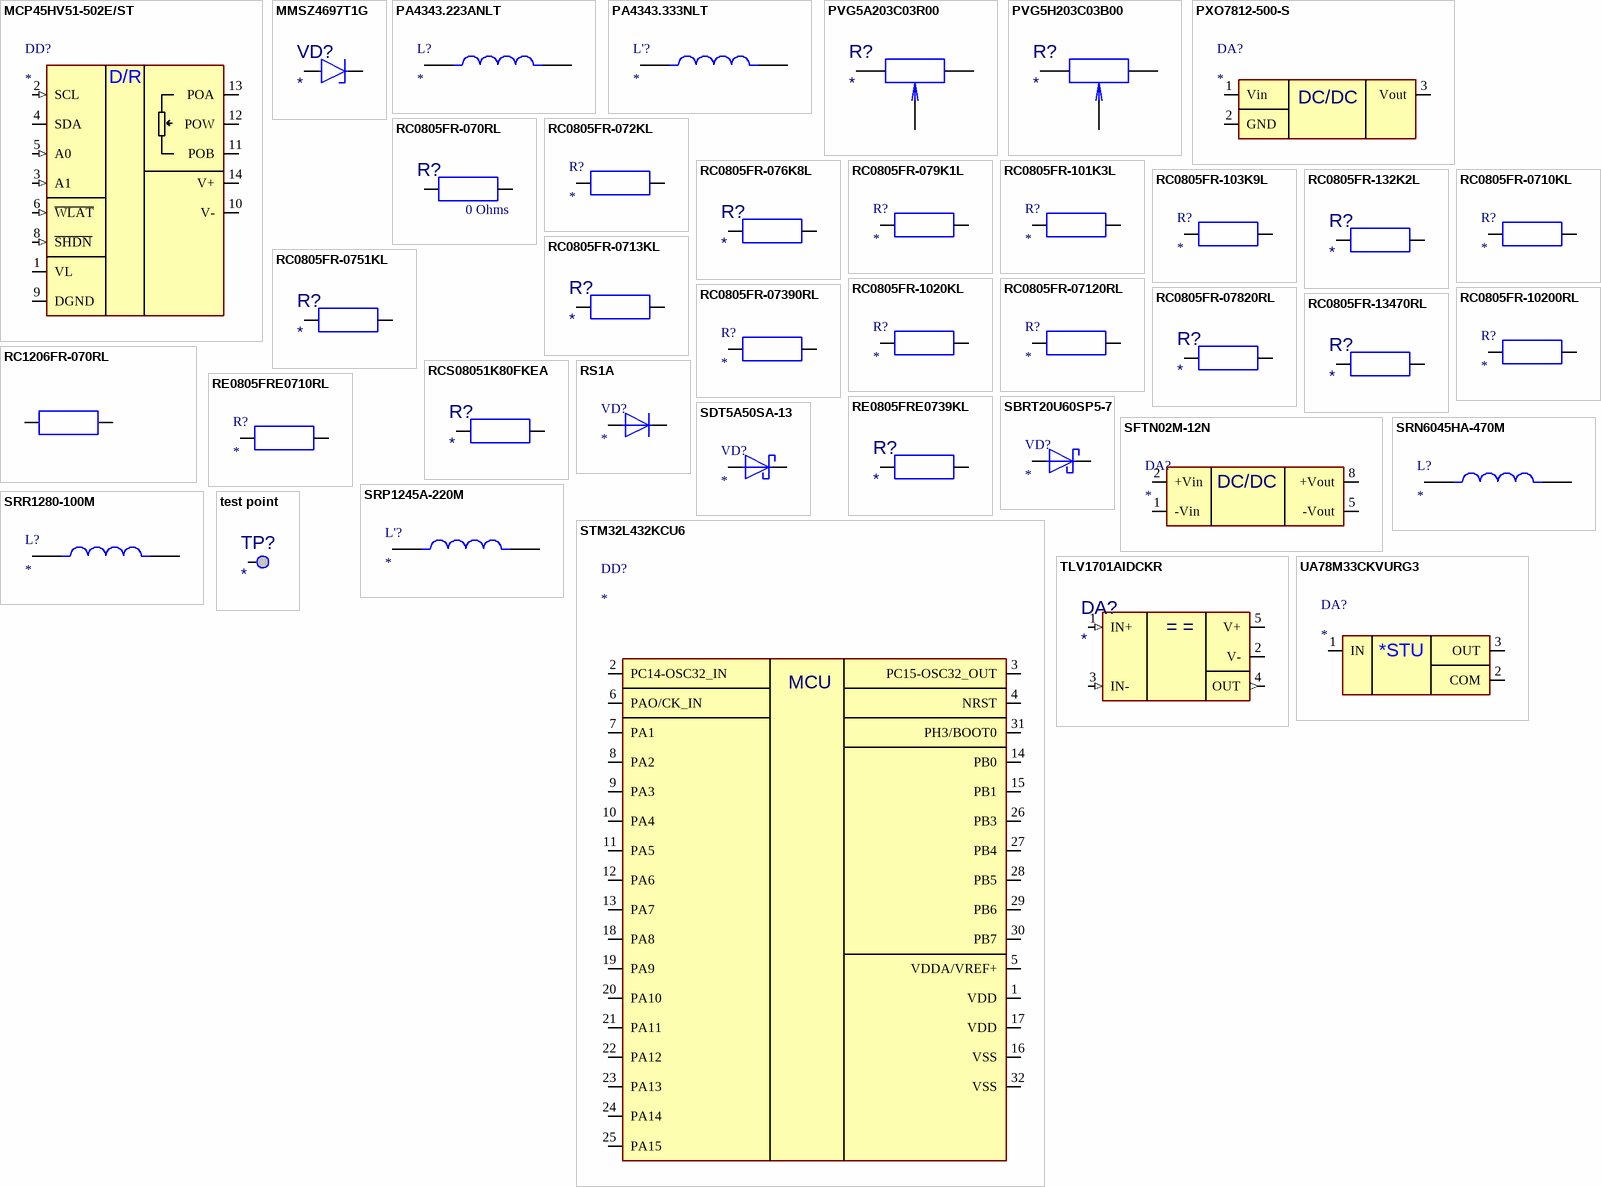
[diagram p1: symbols MCP45HV51-502E/ST to UA78M33CKVURG3]

## MCP45HV51-502E/ST
designator DD?
Digital Potentiometer ICs 8-bit, vol Digi Pot 5K ohm, 14ld TSSOP; ManufacturerPartNumber: MCP45HV51-502E/ST; Manufacturer: Microchip; Designator: DD; Mouser Price/Stock: https://eu.mouser.com/ProductDetail/Microchip-Technology/MCP45HV51-502E-ST?qs=wzzOUr4NhYo51RHFtIUWQw%3D%3D; Case: TSSOP-14; Datasheet Link: https://eu.mouser.com/datasheet/2/268/MCP45HVX1_Data_Sheet_DS20005304-3224813.pdf; Mouser Part Number: 579-MCP45HV51-502EST
footprint TSOP-14 (TSOP, 14-Leads, Body 5,00x4,40mm, Pitch 0,65mm, IPC Medium Density)
pins: 1 VL (power), 2 SCL (in), 3 A1 (in), 4 SDA (io), 5 A0 (in), 6 ~{WLAT} (in), 7 NC hidden, 8 ~{SHDN} (in), 9 DGND (power), 10 V- (power), 11 POB, 12 POW, 13 POA, 14 V+ (power)
text: D/R

## MMSZ4697T1G
designator VD?
Zener Diodes 10V 500mW; Manufacturer: onsemi; ManufacturerPartNumber: MMSZ4697T1G; Designator: VD; Case: SOD-123-2; Datasheet Link: https://eu.mouser.com/datasheet/2/308/1/MMSZ4678T1_D-2316153.pdf; Mouser Part Number: 863-MMSZ4697T1G; Mouser Price/Stock: https://eu.mouser.com/ProductDetail/onsemi/MMSZ4697T1G?qs=P4IOph%252Bbot8MYBlZDJ3TeA%3D%3D
footprint SOD-123-2
pins: 1 C, 2 A

## PA4343.223ANLT
designator L?
Power Inductors - SMD 22uH 8A 6.5mm 20% SMT; Manufacturer: Pulse Electronics; ManufacturerPartNumber: PA4343.223ANLT; Designator: L; Maximum Current: 10 A; Maximum Resistance: 35 mOhms; Case: Footprint 2; Datasheet Link: https://eu.mouser.com/datasheet/2/447/pulse_plei_s_a0011300682_1-2904644.pdf; Mouser Part Number: 673-PA4343.223ANLT; Mouser Price/Stock: https://eu.mouser.com/ProductDetail/Pulse-Electronics/PA4343.223ANLT?qs=chTDxNqvsynRNYLFa1aovw%3D%3D; Tolerance: 20%; Value: 22 uH
footprint PA4343.223ANLT_Footprint 2
pins: 1, 2

## PA4343.333NLT
designator L'?
Power Inductors - SMD 33uH 8A 6.5mm 20% Low Prof; Manufacturer: Pulse Electronics; ManufacturerPartNumber: PA4343.333NLT; Designator: L'; Maximum Resistance: 58 mOhms; Case: Footprint 2; Datasheet Link: https://eu.mouser.com/datasheet/2/447/plei_s_a0011300602_1-2903829.pdf; Maximum Current: 8 A; Mouser Part Number: 673-PA4343.333NLT; Mouser Price/Stock: https://eu.mouser.com/ProductDetail/Pulse-Electronics/PA4343.333NLT?qs=%2FzQKu7YvIMYiu1Bp4orpHw%3D%3D; Tolerance: 20%; Value: 33 uH
footprint PA4343.333NLT_Footprint 2
pins: 1, 2

## PVG5A203C03R00
designator R?
Trimmer Resistors - SMD 20Kohms 5mm 11turn Top Adjust; Manufacturer: Bourns; ManufacturerPartNumber: PVG5A203C03R00; Designator: R; Power/Voltage: 250 mW; Tolerance: 10%; Case: PVG5A; Datasheet Link: https://eu.mouser.com/datasheet/2/54/pvg5-907351.pdf; Mouser Part Number: 81-PVG5A203C03R00; Mouser Price/Stock: https://eu.mouser.com/ProductDetail/Bourns/PVG5A203C03R00?qs=K6aI6PsrKE0LOWormtvBdw%3D%3D; Value: 20Kohms
footprint PVG5A
pins: 1, 2, 3

## PVG5H203C03B00
designator R?
Trimmer Resistors - SMD 20Kohms 5mm 11turn Side Adjust; Manufacturer: Bourns; ManufacturerPartNumber: PVG5H203C03B00; Designator: R; Power/Voltage: 250 mW; Tolerance: 10%; Case: PVG5H; Datasheet Link: https://eu.mouser.com/datasheet/2/54/pvg5-907351.pdf; Mouser Part Number: 81-PVG5H203C03B00; Mouser Price/Stock: https://eu.mouser.com/ProductDetail/Bourns/PVG5H203C03B00?qs=sGAEpiMZZMu2vyeiTNtwLAWWg9f2DNsd05B95OaS9Bo%3D; Value: 20Kohms
footprint PVG5H
pins: 1, 2, 3

## PXO7812-500-S
designator DA?
Non-Isolated DC/DC Converters dc-dc non-isolated, 0.5 A, 15-36 Vdc input, 12 Vdc output, SIP; Manufacturer: CUI Inc.; ManufacturerPartNumber: PXO7812-500-S; Designator: DA; Case: POSITIVEOUTPUT; Datasheet Link: https://eu.mouser.com/datasheet/2/670/pxo78_500_s-3313217.pdf; Mouser Part Number: 490-PXO7812-500-S; Mouser Price/Stock: https://eu.mouser.com/ProductDetail/CUI-Inc/PXO7812-500-S?qs=Y0Uzf4wQF3kdbacxg4U5TQ%3D%3D
footprint PXO7812-500-S_POSITIVEOUTPUT
pins: 1 Vin, 2 GND (power), 3 Vout
text: DC/DC

## RC0805FR-070RL
designator R?  value 0 Ohms  (hidden comment: *)
Thick Film Resistors 0 Ohms 125 mW 0805 1%; Manufacturer: YAGEO; ManufacturerPartNumber: RC0805FR-070RL; Designator: R; Power/Voltage: 125 mW / 150V; Case: 0805; Datasheet Link: https://eu.mouser.com/datasheet/2/447/YAGEO_PYu_RC_Group_51_RoHS_L_12-3313492.pdf; Mouser Part Number: 603-RC0805FR-070RL; Mouser Price/Stock: https://eu.mouser.com/ProductDetail/YAGEO/RC0805FR-070RL?qs=sGAEpiMZZMvdGkrng054tx7%2F6%252BNA3LAJ3XU3yVJUh88%3D; Tolerance: 1%
footprint Resistor0805_THICKNESS0.6 (Chip Resistor, 2-Leads, Body 2,00x1,25mm, IPC Medium Density)
pins: 1, 2

## RC0805FR-072KL
designator R?
Thick Film Resistors 2 kOhms 125 mW 0805 1%; Manufacturer: YAGEO; ManufacturerPartNumber: RC0805FR-072KL; Designator: R; Power/Voltage: 125 mW / 150V; Value: 2 kOhms; Case: 0805; Datasheet Link: https://eu.mouser.com/datasheet/2/447/YAGEO_PYu_RC_Group_51_RoHS_L_12-3313492.pdf; Mouser Part Number: 603-RC0805FR-072KL; Mouser Price/Stock: https://eu.mouser.com/ProductDetail/YAGEO/RC0805FR-072KL?qs=sGAEpiMZZMvdGkrng054t8Tx25L%252BvTaRvd4yrUANrI8%3D; Tolerance: 1%
footprint Resistor0805_THICKNESS0.6 (Chip Resistor, 2-Leads, Body 2,00x1,25mm, IPC Medium Density)
pins: 1, 2

## RC0805FR-076K8L
designator R?
Thick Film Resistors 6.8 kOhms 125 mW 0805 1%; Manufacturer: YAGEO; ManufacturerPartNumber: RC0805FR-076K8L; Designator: R; Power/Voltage: 125 mW / 150V; Case: 0805; Datasheet Link: https://eu.mouser.com/datasheet/2/447/YAGEO_PYu_RC_Group_51_RoHS_L_12-3313492.pdf; Mouser Part Number: 603-RC0805FR-076K8L; Mouser Price/Stock: https://eu.mouser.com/ProductDetail/YAGEO/RC0805FR-076K8L?qs=sGAEpiMZZMvdGkrng054t%252BrOXiwDHiXwmzqTgCc8AWw%3D; Tolerance: 1%; Value: 6.8 kOhms
footprint Resistor0805_THICKNESS0.6 (Chip Resistor, 2-Leads, Body 2,00x1,25mm, IPC Medium Density)
pins: 1, 2

## RC0805FR-079K1L
designator R?
Thick Film Resistors 9.1 kOhms 125 mW 0805 1%; ManufacturerPartNumber: RC0805FR-079K1L; Manufacturer: YAGEO; Designator: R; Power/Voltage: 125 mW / 150V; Tolerance: 1%; Value: 9.1 kOhms; Case: 0805; Mouser Price/Stock: https://eu.mouser.com/ProductDetail/YAGEO/RC0805FR-079K1L?qs=sGAEpiMZZMvdGkrng054t8AJgcdMkx7xQsgCDGWWsX0%3D; Datasheet Link: https://eu.mouser.com/datasheet/2/447/YAGEO_PYu_RC_Group_51_RoHS_L_12-3313492.pdf; Mouser Part Number: 603-RC0805FR-079K1L
footprint Resistor0805_THICKNESS0.6 (Chip Resistor, 2-Leads, Body 2,00x1,25mm, IPC Medium Density)
pins: 1, 2

## RC0805FR-101K3L
designator R?
Thick Film Resistors 1.3 kOhms 250 mW 0805 1%; ManufacturerPartNumber: RC0805FR-101K3; Manufacturer: YAGEO; Designator: R; Power/Voltage: 250 mW / 150V; Tolerance: 1%; Value: 1.3 kOhms; Case: 0805; Mouser Price/Stock: https://eu.mouser.com/ProductDetail/YAGEO/RC0805FR-101K3L?qs=sGAEpiMZZMvdGkrng054tyq4809kW%252ByTH4crGNSozBI%3D; Datasheet Link: https://eu.mouser.com/datasheet/2/447/PYu_RC_Group_51_RoHS_L_11-1984063.pdf; Mouser Part Number: 603-RC0805FR-101K3L
footprint Resistor0805_THICKNESS0.6 (Chip Resistor, 2-Leads, Body 2,00x1,25mm, IPC Medium Density)
pins: 1, 2

## RC0805FR-103K9L
designator R?
Thick Film Resistors 3.9kOhms 1/8W 0805 1%; Manufacturer: YAGEO; ManufacturerPartNumber: RC0805FR-103K9L; Designator: R; Power/Voltage: 125 mW / 150V; Case: 0805; Datasheet Link: https://eu.mouser.com/datasheet/2/447/PYu_RC_Group_51_RoHS_L_11-1984063.pdf; Mouser Part Number: 603-RC0805FR-103K9L; Mouser Price/Stock: https://eu.mouser.com/ProductDetail/YAGEO/RC0805FR-103K9L?qs=sGAEpiMZZMvdGkrng054t8AJgcdMkx7xNu5h6kkjzWs%3D; Tolerance: 1%; Value: 3.9kOhms
footprint Resistor0805_THICKNESS0.6 (Chip Resistor, 2-Leads, Body 2,00x1,25mm, IPC Medium Density)
pins: 1, 2

## RC0805FR-132K2L
designator R?
Thick Film Resistors 2.2 kOhms 250 mW 0805 1%; Manufacturer: YAGEO; ManufacturerPartNumber: RC0805FR-132K2L; Designator: R; Power/Voltage: 250 mW / 150V; Case: 0805; Datasheet Link: https://eu.mouser.com/datasheet/2/447/YAGEO_PYu_RC_Group_51_RoHS_L_12-3313492.pdf; Mouser Part Number: 603-RC0805FR-132K2L; Mouser Price/Stock: https://eu.mouser.com/ProductDetail/YAGEO/RC0805FR-132K2L?qs=sGAEpiMZZMvdGkrng054t8AJgcdMkx7x7aXSywnMiOE%3D; Tolerance: 1%; Value: 2.2 kOhms
footprint Resistor0805_THICKNESS0.6 (Chip Resistor, 2-Leads, Body 2,00x1,25mm, IPC Medium Density)
pins: 1, 2

## RC0805FR-0710KL
designator R?
Thick Film Resistors 10 kOhms 125 mW 0805 1%; Manufacturer: YAGEO; ManufacturerPartNumber: RC0805FR-0710KL; Designator: R; Power/Voltage: 125 mW / 150V; Case: 0805; Datasheet Link: https://eu.mouser.com/datasheet/2/447/YAGEO_PYu_RC_Group_51_RoHS_L_12-3313492.pdf; Mouser Part Number: 603-RC0805FR-0710KL; Mouser Price/Stock: https://eu.mouser.com/ProductDetail/YAGEO/RC0805FR-0710KL?qs=sGAEpiMZZMvdGkrng054txdMlaQGj9fi4uZGpN02qIo%3D; Tolerance: 1%; Value: 10 kOhms
footprint Resistor0805_THICKNESS0.6 (Chip Resistor, 2-Leads, Body 2,00x1,25mm, IPC Medium Density)
pins: 1, 2

## RC0805FR-0713KL
designator R?
Thick Film Resistors 13 kOhms 125 mW 0805 1%; Manufacturer: ABRACON; ManufacturerPartNumber: RC0805FR-0713KL; Designator: R; Power/Voltage: 125 mW / 150V; Case: 0805; Datasheet Link: https://eu.mouser.com/datasheet/2/447/YAGEO_PYu_RC_Group_51_RoHS_L_12-3313492.pdf; Mouser Part Number: 603-RC0805FR-0713KL; Mouser Price/Stock: https://eu.mouser.com/ProductDetail/YAGEO/RC0805FR-0713KL?qs=sGAEpiMZZMvdGkrng054t8Tx25L%252BvTaRzcaPOJ2jAJE%3D; Tolerance: 1%; Value: 13 kOhms
footprint Resistor0805_THICKNESS0.6 (Chip Resistor, 2-Leads, Body 2,00x1,25mm, IPC Medium Density)
pins: 1, 2

## RC0805FR-0751KL
designator R?
Thick Film Resistors 51 kOhms 125 mW 0805 1%; Manufacturer: YAGEO; ManufacturerPartNumber: RC0805FR-0751KL; Designator: R; Power/Voltage: 125 mW / 150V; Case: 0805; Datasheet Link: https://eu.mouser.com/datasheet/2/447/YAGEO_PYu_RC_Group_51_RoHS_L_12-3313492.pdf; Mouser Part Number: 603-RC0805FR-0751KL; Mouser Price/Stock: https://eu.mouser.com/ProductDetail/YAGEO/RC0805FR-0751KL?qs=sGAEpiMZZMvdGkrng054t8AJgcdMkx7x7tQBjPKHhxY%3D; Tolerance: 1%; Value: 51 kOhms
footprint Resistor0805_THICKNESS0.6 (Chip Resistor, 2-Leads, Body 2,00x1,25mm, IPC Medium Density)
pins: 1, 2

## RC0805FR-1020KL
designator R?
Thick Film Resistors 20 kOhms 125 mW 0805 1%; Manufacturer: YAGEO; ManufacturerPartNumber: RC0805FR-1020KL; Designator: R; Power/Voltage: 125 mW / 150V; Case: 0805; Datasheet Link: https://eu.mouser.com/datasheet/2/447/PYu_RC_Group_51_RoHS_L_11-1984063.pdf; Mouser Part Number: 603-RC0805FR-1020KL; Mouser Price/Stock: https://eu.mouser.com/ProductDetail/YAGEO/RC0805FR-1020KL?qs=sGAEpiMZZMvdGkrng054t7z4BkURc4LzyQBLWrMO%252BznK%2FJbWTd%2FqOQ%3D%3D; Tolerance: 1%; Value: 20 kOhms
footprint Resistor0805_THICKNESS0.6 (Chip Resistor, 2-Leads, Body 2,00x1,25mm, IPC Medium Density)
pins: 1, 2

## RC0805FR-07120RL
designator R?
Thick Film Resistors 120 Ohms 125 mW 0805 1%; ManufacturerPartNumber: RC0805FR-07120RL; Manufacturer: YAGEO; Designator: R; Power/Voltage: 125 mW / 150V; Value: 120 Ohms; Tolerance: 1%; Case: 0805; Mouser Price/Stock: https://eu.mouser.com/ProductDetail/YAGEO/RC0805FR-07120RL?qs=sGAEpiMZZMvdGkrng054t8Tx25L%252BvTaRzcdZIgz1A9Y%3D; Datasheet Link: https://eu.mouser.com/datasheet/2/447/YAGEO_PYu_RC_Group_51_RoHS_L_12-3313492.pdf; Mouser Part Number: 603-RC0805FR-07120RL
footprint Resistor0805_THICKNESS0.6 (Chip Resistor, 2-Leads, Body 2,00x1,25mm, IPC Medium Density)
pins: 1, 2

## RC0805FR-07390RL
designator R?
Thick Film Resistors 390 Ohms 125 mW 0805 1%; Manufacturer: YAGEO; ManufacturerPartNumber: RC0805FR-07390RL; Designator: R; Power/Voltage: 125 mW / 150V; Case: 0805; Datasheet Link: https://eu.mouser.com/datasheet/2/447/YAGEO_PYu_RC_Group_51_RoHS_L_12-3313492.pdf; Mouser Part Number: 603-RC0805FR-07390RL; Mouser Price/Stock: https://eu.mouser.com/ProductDetail/YAGEO/RC0805FR-07390RL?qs=sGAEpiMZZMvdGkrng054txsj74Bdh5mga79f2h4RYlI%3D; Tolerance: 1%; Value: 390 Ohms
footprint Resistor0805_THICKNESS0.6 (Chip Resistor, 2-Leads, Body 2,00x1,25mm, IPC Medium Density)
pins: 1, 2

## RC0805FR-07820RL
designator R?
Thick Film Resistors 820 Ohms 125 mW 0805 1%; Manufacturer: YAGEO; ManufacturerPartNumber: RC0805FR-07820RL; Designator: R; Power/Voltage: 125 mW / 150V; Case: 0805; Datasheet Link: https://eu.mouser.com/datasheet/2/447/YAGEO_PYu_RC_Group_51_RoHS_L_12-3313492.pdf; Mouser Part Number: 603-RC0805FR-07820RL; Mouser Price/Stock: https://eu.mouser.com/ProductDetail/YAGEO/RC0805FR-07820RL?qs=sGAEpiMZZMvdGkrng054t8Tx25L%252BvTaRw7u%2FIxz%252Bh2w%3D; Tolerance: 1%; Value: 820 Ohms
footprint Resistor0805_THICKNESS0.6 (Chip Resistor, 2-Leads, Body 2,00x1,25mm, IPC Medium Density)
pins: 1, 2

## RC0805FR-10200RL
designator R?
Thick Film Resistors 200Ohms 1/8W 0805 1%; Manufacturer: YAGEO; ManufacturerPartNumber: RC0805FR-10200RL; Designator: R; Power/Voltage: 125 mW / 150V; Case: 0805; Datasheet Link: https://www.yageo.com/upload/media/product/productsearch/datasheet/rchip/PYu-RC_Group_51_RoHS_L_12.pdf; Mouser Price/Stock: https://eu.mouser.com/ProductDetail/YAGEO/RC0805FR-10200RL?qs=sGAEpiMZZMvdGkrng054t7z4BkURc4LzuHPKHxVOSmZu%252BG%252BXJlK7UA%3D%3D; Tolerance: 1%; Value: 200 Ohms; Mouser Part Number: 603-RC0805FR-10200RL
footprint Resistor0805_THICKNESS0.6 (Chip Resistor, 2-Leads, Body 2,00x1,25mm, IPC Medium Density)
pins: 1, 2

## RC0805FR-13470RL
designator R?
Thick Film Resistors 470Ohms 1/8W 0805 1%; Manufacturer: YAGEO; ManufacturerPartNumber: RC0805FR-13470RL; Designator: R; Power/Voltage: 125 mW / 150V; Case: 0805; Datasheet Link: https://eu.mouser.com/datasheet/2/447/PYu_RC_Group_51_RoHS_L_11-1984063.pdf; Mouser Part Number: 603-RC0805FR-13470RL; Mouser Price/Stock: https://eu.mouser.com/ProductDetail/YAGEO/RC0805FR-13470RL?qs=sGAEpiMZZMvdGkrng054t8AJgcdMkx7xT%252BvX9TIwRXU%3D; Tolerance: 1%; Value: 470 Ohms
footprint Resistor0805_THICKNESS0.6 (Chip Resistor, 2-Leads, Body 2,00x1,25mm, IPC Medium Density)
pins: 1, 2

## RC1206FR-070RL
designator R?
Thick Film Resistors 0 Ohms 250 mW 1206 1%; Manufacturer: YAGEO; ManufacturerPartNumber: RC1206FR-070RL; Designator: R; Power/Voltage: 250 mW / 200 V; Value: 0 Ohms; Case: 1206; Datasheet Link: https://eu.mouser.com/datasheet/2/447/YAGEO_PYu_RC_Group_51_RoHS_L_12-3313492.pdf; Mouser Part Number: 603-RC1206FR-070RL; Mouser Price/Stock: https://eu.mouser.com/ProductDetail/YAGEO/RC1206FR-070RL?qs=sGAEpiMZZMvdGkrng054t3pr%252BPE%2FADjs%252BFqZDLJFx1g%3D; Tolerance: 1%
footprint Resistor1206_THICKNESS0.65 (Chip Resistor, 2-Leads, Body 3,10x1,60mm, IPC Medium Density)
pins: 1, 2

## RCS08051K80FKEA
designator R?
Thick Film Resistors 500mW 1.8Kohms 1% 100ppm AEC-Q200; Manufacturer: Vishay; ManufacturerPartNumber: RCS08051K80FKEA; Designator: R; Power/Voltage: 500 mW / 150V; Case: 0805; Datasheet Link: https://www.vishay.com/docs/20065/rcse3.pdf; Mouser Part Number: 71-RCS08051K80FKEA; Mouser Price/Stock: https://eu.mouser.com/ProductDetail/Vishay-Dale/RCS08051K80FKEA?qs=sGAEpiMZZMvdGkrng054t556eu%2FvOimDPinpy0KfWNKlrcvC2gOqHQ%3D%3D; Tolerance: 1%; Value: 1.8Kohms
footprint RCS0805 e3
pins: 1, 2

## RE0805FRE0710RL
designator R?
Thick Film Resistors 10 Ohms 125 mW 0805 1%; Manufacturer: YAGEO; ManufacturerPartNumber: RE0805FRE0710RL; Designator: R; Power/Voltage: 125 mW / 150V; Value: 10 Ohms; Case: 0805; Datasheet Link: https://eu.mouser.com/datasheet/2/447/PYu_RE_105_RoHS_L_6-3003059.pdf; Mouser Part Number: 603-RE0805FRE0710RL; Mouser Price/Stock: https://eu.mouser.com/ProductDetail/YAGEO/RE0805FRE0710RL?qs=sGAEpiMZZMvdGkrng054txKsa61JPVaKU6lpEP28x7tdTAAdaUzZLA%3D%3D; Tolerance: 1%
footprint Resistor0805_THICKNESS0.6 (Chip Resistor, 2-Leads, Body 2,00x1,25mm, IPC Medium Density)
pins: 1, 2

## RE0805FRE0739KL
designator R?
Thick Film Resistors 39 kOhms 125 mW 0805 1%; Manufacturer: YAGEO; ManufacturerPartNumber: RE0805FRE0739KL; Designator: R; Power/Voltage: 125 mW / 150V; Case: 0805; Datasheet Link: https://eu.mouser.com/datasheet/2/447/PYu_RE_105_RoHS_L_6-3003059.pdf; Mouser Part Number: 603-RE0805FRE0739KL; Mouser Price/Stock: https://eu.mouser.com/ProductDetail/YAGEO/RE0805FRE0739KL?qs=sGAEpiMZZMvdGkrng054t8Pyfa06IR6dA9gJB6K12e1zjPrdMTPWEg%3D%3D; Tolerance: 1%; Value: 39 kOhms
footprint Resistor0805_THICKNESS0.6 (Chip Resistor, 2-Leads, Body 2,00x1,25mm, IPC Medium Density)
pins: 1, 2

## RS1A
designator VD?
Rectifiers 50V 1a Fast Rect SMa; ManufacturerPartNumber: RS1A; Manufacturer: onsemi; Designator: VD; Mouser Price/Stock: https://eu.mouser.com/ProductDetail/onsemi-Fairchild/RS1A?qs=sGAEpiMZZMutXGli8Ay4kAXd892%252BOdvfjQsX8ptTDkM%3D; Case: SMA 403AE; Datasheet Link: https://eu.mouser.com/datasheet/2/308/1/RS1M_D-2320127.pdf; Mouser Part Number: 512-RS1A
footprint RS1A_CASE_SMA 403AE (Molded Diode, 2-Leads, Body 4,38x2,73mm, IPC Medium Density)
pins: A, C

## SBRT20U60SP5-7
designator VD?
Schottky Diodes & Rectifiers 20A Trench SBR 100V 20A 0.70Vf 0.3mA; Manufacturer: Diodes Incorporated; ManufacturerPartNumber: SBRT20U60SP5-7; Designator: VD; Case: PowerDI5-3; Datasheet Link: https://eu.mouser.com/datasheet/2/115/DIOD_S_A0001069160_1-2541914.pdf; Mouser Part Number: 621-SBRT20U60SP57; Mouser Price/Stock: https://eu.mouser.com/ProductDetail/Diodes-Incorporated/SBRT20U60SP5-7?qs=JtunSoW0QGHhdN393pOqEQ%3D%3D
footprint PowerDI5-3
pins: A1, A2 hidden, C

## SDT5A50SA-13
designator VD?
Schottky Diodes & Rectifiers Schottky Rectifier; Manufacturer: Diodes Incorporated; ManufacturerPartNumber: SDT5A50SA-13; Designator: VD; Case: SMA (DO-214AC); Datasheet Link: https://eu.mouser.com/datasheet/2/115/DIOD_S_A0006646692_1-2542970.pdf; Mouser Part Number: 621-SDT5A50SA-13; Mouser Price/Stock: https://eu.mouser.com/ProductDetail/Diodes-Incorporated/SDT5A50SA-13?qs=PqoDHHvF648Tl3iEGgSrjg%3D%3D
footprint RS1A_CASE_SMA 403AE (Molded Diode, 2-Leads, Body 4,38x2,73mm, IPC Medium Density)
pins: A, C

## SFTN02M-12N
designator DA?
Isolated DC/DC Converters - SMD 2W 12Vin 12Vout 33-167mA SMT Unregulated; Manufacturer: MEAN WELL; ManufacturerPartNumber: SFTN02M-12N; Designator: DA; Case: SFTN02-N; Datasheet Link: https://www.meanwell.com/webapp/product/search.aspx?prod=SFTN02-N; Mouser Part Number: 709-SFTN02M-12N; Mouser Price/Stock: https://eu.mouser.com/ProductDetail/MEAN-WELL/SFTN02M-12N?qs=A6eO%252BMLsxmT1hTQp3VGaXQ%3D%3D
footprint SFTN02-N (SOP, 12-Leads, Body 15,24x10,90mm, Pitch 2,54mm, IPC Medium Density)
pins: 1 -Vin, 2 +Vin, 3 N.C. hidden, 5 -Vout, 6 N.C. hidden, 7 N.C. hidden, 8 +Vout, 10 N.C. hidden, 11 N.C. hidden, 12 N.C. hidden
text: DC/DC

## SRN6045HA-470M
designator L?
Power Inductors - SMD Ind,6x6x4.7mm,47uH+/-20%,1A,semi-shd; Manufacturer: Bourns; ManufacturerPartNumber: SRN6045HA-470M; Designator: L; Maximum Resistance: 305 mOhms; Tolerance: 20%; Value: 47 uH; Case: R55; Datasheet Link: https://eu.mouser.com/datasheet/2/54/SRN6045HA_datasheet-2498144.pdf; Maximum Current: 1 A; Mouser Part Number: 652-SRN6045HA-470M; Mouser Price/Stock: https://eu.mouser.com/ProductDetail/Bourns/SRN6045HA-470M?qs=e8oIoAS2J1TQqJ%2FyaON1CQ%3D%3D
footprint SRN6045HA-470M
pins: 1, 2

## SRP1245A-220M
designator L'?
Power Inductors - SMD 22uH 20% SMD 1245 AEC-Q200; Manufacturer: Bourns; ManufacturerPartNumber: SRP1245A-220M; Designator: L'; Maximum Current: 6.5 A; Maximum Resistance: 58 mOhms; Datasheet Link: https://eu.mouser.com/datasheet/2/54/srp1245a-1391547.pdf; Mouser Part Number: 652-SRP1245A-220M; Mouser Price/Stock: https://eu.mouser.com/ProductDetail/Bourns/SRP1245A-220M?qs=HHB9qDlP%2FfCWOnZ6lI%252BW4g%3D%3D; Tolerance: 20%; Value: 22 uH; Case: Lead  Frame
footprint SRP1245A-220M (Precision Wire Wound Inductor, 2-Leads, Body 13,50x12,50mm, IPC Medium Density)
pins: 1, 2

## SRR1280-100M
designator L?
Power Inductors - SMD 10uH 20% SMD 1280; Manufacturer: Bourns; ManufacturerPartNumber: SRR1280-100M; Designator: L; Maximum Current: 6 A; Maximum Resistance: 19.5 mOhms; Case: 5050; Datasheet Link: https://eu.mouser.com/datasheet/2/54/srr1280-1391363.pdf; Mouser Part Number: 652-SRR1280-100M; Mouser Price/Stock: https://eu.mouser.com/ProductDetail/Bourns/SRR1280-100M?qs=brMhP%2FMjUfe%2FtbNTKcGHiQ%3D%3D; Tolerance: 20%; Value: 10 uH
footprint SRR1280-100M (Precision Wire Wound Inductor, 2-Leads, Body 12,50x12,50mm, IPC Medium Density)
pins: 1, 2

## STM32L432KCU6
designator DD?
ARM Microcontrollers - MCU Ultra-low-power FPU Arm Cortex-M4 MCU 80 MHz 256 Kbytes of Flash , USB; Manufacturer: STMicroelectronics; ManufacturerPartNumber: STM32L432KCU6; Designator: DD; Case: UFQFPN-32; Datasheet Link: https://eu.mouser.com/datasheet/2/389/stm32l432kb-1851151.pdf; Mouser Part Number: 511-STM32L432KCU6; Mouser Price/Stock: https://eu.mouser.com/ProductDetail/STMicroelectronics/STM32L432KCU6?qs=dTJS0cRn7oiybcTRwI97Tw%3D%3D
footprint UFQFPN-32 (PQFN, 32-Leads, Body 5,00x5,00mm, Pitch 0,50mm, Thermal Pad 3,45x3,45mm, IPC Medium Density)
pins: 1 VDD (power), 2 PC14-OSC32_IN (io), 3 PC15-OSC32_OUT (io), 4 NRST (io), 5 VDDA/VREF+ (power), 6 PAO/CK_IN (io), 7 PA1 (io), 8 PA2 (io), 9 PA3 (io), 10 PA4 (io), 11 PA5 (io), 12 PA6 (io), 13 PA7 (io), 14 PB0 (io), 15 PB1 (io), 16 VSS (power), 17 VDD (power), 18 PA8 (io), 19 PA9 (io), 20 PA10 (io), 21 PA11 (io), 22 PA12 (io), 23 PA13 (io), 24 PA14 (io), 25 PA15 (io), 26 PB3 (io), 27 PB4 (io), 28 PB5 (io), 29 PB6 (io), 30 PB7 (io), 31 PH3/BOOT0 (io), 32 VSS (power)
text: MCU

## test point
designator TP?
test point
footprint test point
pins: 1

## TLV1701AIDCKR
designator DA?
Analog Comparators 2.2-V to 36-V, micro Power Comparator; Manufacturer: Texas Instruments; ManufacturerPartNumber: TLV1701AIDCKR; Designator: DA; Case: SOT-23 5pin; Datasheet Link: https://www.ti.com/lit/ds/symlink/tlv1702.pdf?ts=1706525533181&ref_url=https%253A%252F%252Feu.mouser.com%252F; Mouser Part Number: TLV1701AIDCKR; Mouser Price/Stock: https://eu.mouser.com/ProductDetail/Texas-Instruments/TLV1701AIDCKR?qs=n7vHx8wJlDHoumX0KH24OA%3D%3D
footprint SOT-23 5pin (SOT23, 5-Leads, Body 2,90x2,80mm, Pitch 0,95mm, IPC Medium Density)
pins: 1 IN+ (in), 2 V- (power), 3 IN- (in), 4 OUT (out), 5 V+ (power)
text: ㅤ= =

## UA78M33CKVURG3
designator DA?
Linear Voltage Regulators 3.3 V 500mA Fix Pos Voltage Regulator; Manufacturer: Texas Instruments; ManufacturerPartNumber: UA78M33CKVURG3; Designator: DA; Case: TO-252 3pin; Datasheet Link: https://www.ti.com/lit/ds/symlink/ua78m.pdf?ts=1704830544530&ref_url=https%253A%252F%252Fwww.mouser.ch%252F; Mouser Part Number: 595-UA78M33CKVURG3; Mouser Price/Stock: https://eu.mouser.com/ProductDetail/Texas-Instruments/UA78M33CKVURG3?qs=0O%2FZFlpUpJXrDg4gfD1Q2g%3D%3D
footprint TO-252 3pin THICKNESS2.52 (D-PAK, 3-Pads, Body 6,21x6,71mm (max), IPC Medium Density)
pins: 1 IN, 2 COM (power), 3 OUT
text: *STU